# Altium footprint library WF_Connector.PcbLib: 9 footprints
Each footprint in its own frame and in the unit in brackets; x right, y up, seen from the top. Pads: shape width x height; smd on the part's side, far side on the other; paste and mask are expansions set on the pad; w line width, h text height; cw(c..) or ccw(c..) is an arc to the next point about the centre after c.
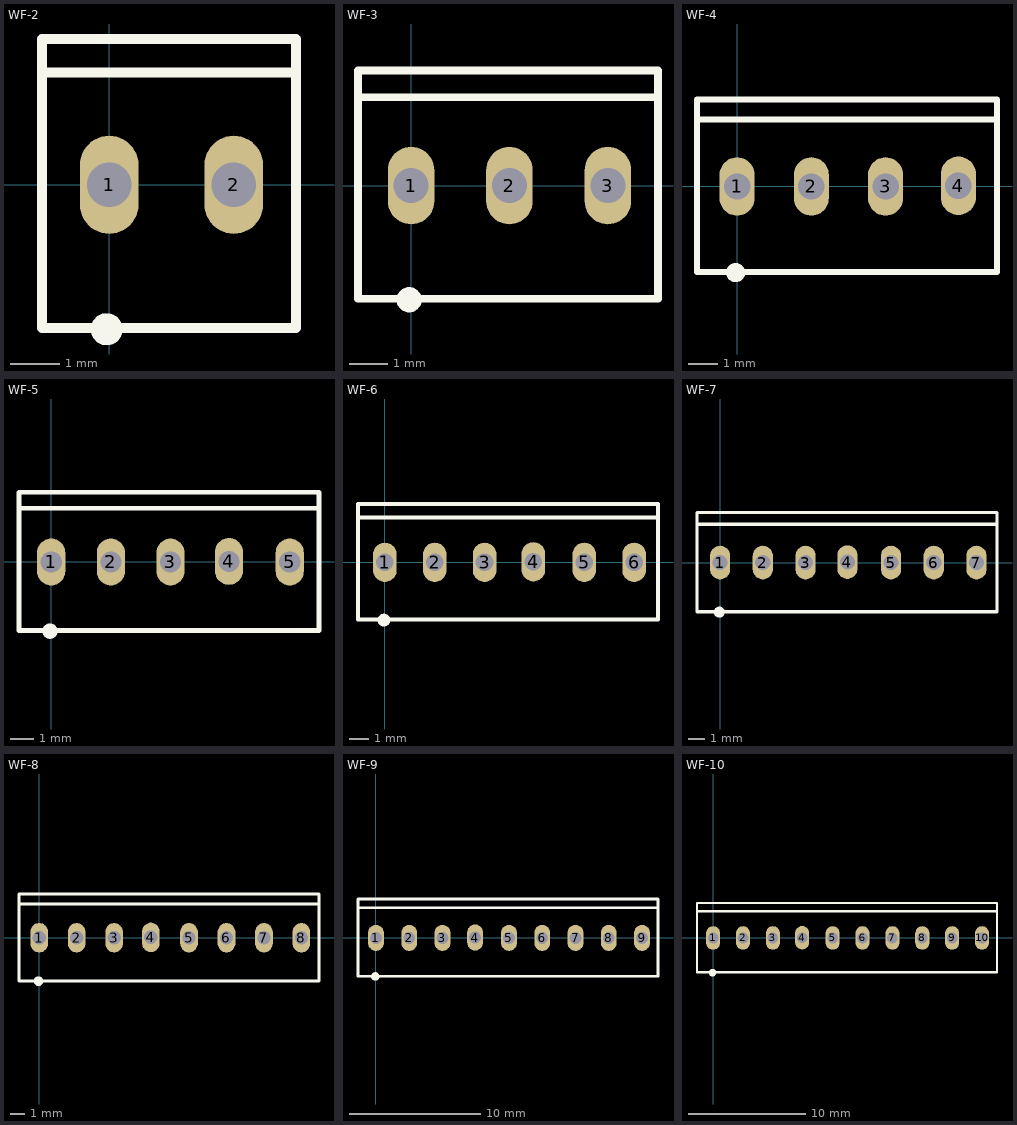
[diagram p0: the footprints below, top view; thin cyan lines are the x and y axes]

## WF-2 [mm]
pads (2):
  oval 1.2x2 hole 0.9: 1(0,0) 2(2.54,0)
Top Overlay:
  circle w0.254: c-0.051,-2.946 r0.198
  lines w0.2: -1.372,2.286 3.81,2.286 ; -1.372,-2.921 -1.372,2.972 3.81,2.972 3.81,-2.921 -1.372,-2.921
3D body: height 11.77, standoff -3.49, extent -1.295,-2.925 3.785,2.875

## WF-3 [mm]
pads (3):
  oval 1.2x2 hole 0.9: 1(0,0) 2(2.54,0) 3(5.08,0)
Top Overlay:
  circle w0.254: c-0.051,-2.946 r0.198
  lines w0.2: -1.372,2.286 6.35,2.286 ; -1.372,-2.921 6.375,-2.921 6.375,2.972 -1.372,2.972 -1.372,-2.921
3D body: height 11.77, standoff -3.49, extent -1.295,-2.925 6.325,2.875

## WF-4 [mm]
pads (4):
  oval 1.2x2 hole 0.9: 1(0,0) 2(2.54,0) 3(5.08,0) 4(7.569,0.025)
Top Overlay:
  circle w0.254: c-0.051,-2.946 r0.198
  lines w0.2: -1.372,2.286 8.89,2.286 ; -1.372,-2.921 8.89,-2.921 8.89,2.972 -1.372,2.972 -1.372,-2.921
3D body: height 11.77, standoff -3.49, extent -1.27,-2.951 8.89,2.849

## WF-5 [mm]
pads (5):
  oval 1.2x2 hole 0.9: 1(0,0) 2(2.54,0) 3(5.08,0) 4(7.569,0.025) 5(10.16,0)
Top Overlay:
  circle w0.254: c-0.051,-2.946 r0.198
  lines w0.2: -1.372,2.286 11.405,2.286 ; -1.372,-2.921 -1.372,2.972 11.405,2.972 11.405,-2.921 -1.372,-2.921
3D body: height 11.77, standoff -3.49, extent -1.27,-2.951 11.43,2.849

## WF-6 [mm]
pads (6):
  oval 1.2x2 hole 0.9: 1(0,0) 2(2.54,0) 3(5.08,0) 4(7.569,0.025) 5(10.16,0) 6(12.7,0)
Top Overlay:
  circle w0.254: c-0.051,-2.946 r0.198
  lines w0.2: -1.372,2.286 13.894,2.286 ; -1.372,-2.921 13.919,-2.921 13.919,2.972 -1.372,2.972 -1.372,-2.921
3D body: height 11.77, standoff -3.49, extent -1.27,-2.951 13.97,2.849

## WF-7 [mm]
pads (7):
  oval 1.2x2 hole 0.9: 1(0,0) 2(2.54,0) 3(5.08,0) 4(7.569,0.025) 5(10.16,0) 6(12.7,0) 7(15.24,0)
Top Overlay:
  circle w0.254: c-0.051,-2.946 r0.198
  lines w0.2: -1.372,2.286 16.459,2.286 ; -1.372,-2.921 -1.372,2.972 16.459,2.972 16.459,-2.921 -1.372,-2.921
3D body: height 11.77, standoff -3.49, extent -1.27,-2.896 16.51,2.904

## WF-8 [mm]
pads (8):
  oval 1.2x2 hole 0.9: 1(0,0) 2(2.54,0) 3(5.08,0) 4(7.569,0.025) 5(10.16,0) 6(12.7,0) 7(15.24,0) 8(17.78,0)
Top Overlay:
  circle w0.254: c-0.051,-2.946 r0.198
  lines w0.2: -1.372,2.286 18.974,2.286 ; -1.372,-2.921 18.974,-2.921 18.974,2.972 -1.372,2.972 -1.372,-2.921
3D body: height 11.77, standoff -3.49, extent -1.372,-2.921 18.948,2.879

## WF-9 [mm]
pads (9):
  oval 1.2x2 hole 0.9: 1(0,0) 2(2.54,0) 3(5.08,0) 4(7.569,0.025) 5(10.16,0) 6(12.7,0) 7(15.24,0) 8(17.78,0) 9(20.32,0)
Top Overlay:
  circle w0.254: c-0.051,-2.946 r0.198
  lines w0.2: -1.372,2.286 21.488,2.286 ; -1.372,-2.921 -1.372,2.972 21.539,2.972 21.539,-2.921 -1.372,-2.921
3D body: height 11.77, standoff -3.49, extent -1.372,-2.828 21.488,2.972

## WF-10 [mm]
pads (10):
  oval 1.2x2 hole 0.9: 1(0,0) 2(2.54,0) 3(5.08,0) 4(7.569,0.025) 5(10.16,0) 6(12.7,0) 7(15.24,0) 8(17.78,0) 9(20.32,0) 10(22.86,0)
Top Overlay:
  circle w0.254: c-0.051,-2.946 r0.198
  lines w0.2: -1.372,2.286 24.13,2.286 ; -1.372,-2.921 -1.372,2.972 24.13,2.972 24.13,-2.921 -1.372,-2.921
3D body: height 11.77, standoff -3.49, extent -1.372,-2.921 24.028,2.879